# Altium schematic symbol library jlcpcb_2025_04_inductors_extended_1008.schlib: 378 symbols (part 6 of 7)
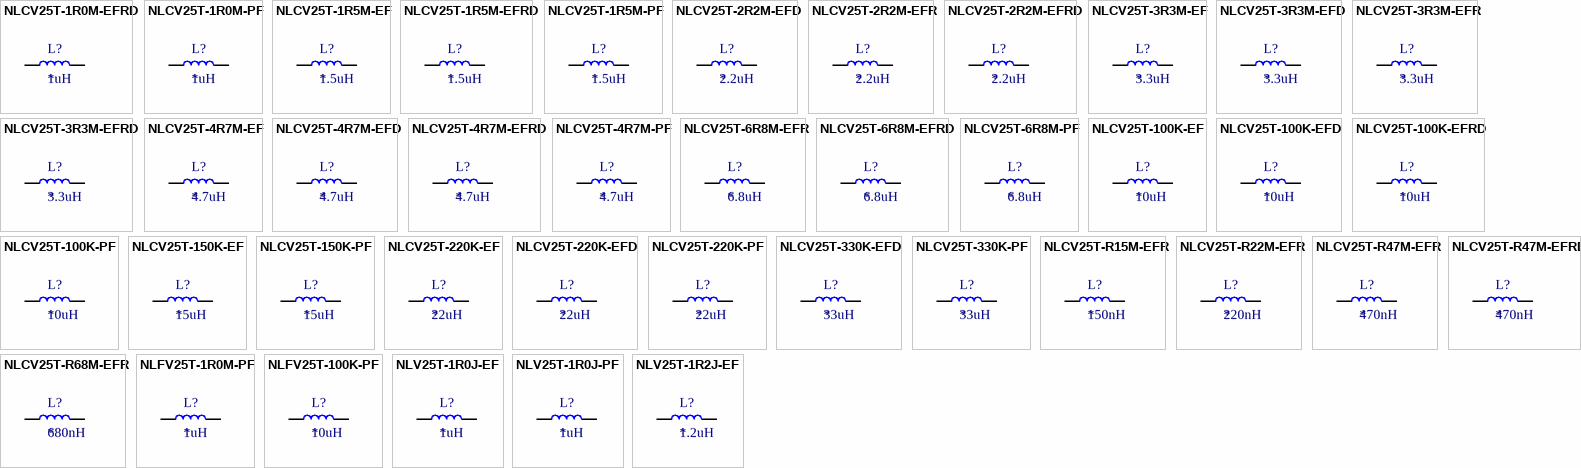
[diagram p14: symbols NLCV25T-1R0M-EFRD to NLV25T-1R2J-EF]

## NLCV25T-R22M-EFR
designator L?  Inductance: 220nH
Inductor, 220nH, ±20%, 50mΩ, 1.69A, SMD 1008; Manufacturer: TDK; Manufacturer Part Number: NLCV25T-R22M-EFR; Self-Resonant Frequency: 400MHz; Q Factor: 5@25.2MHz; Package Size: 1008; JLCPCB Basic Part: No; JLCPCB Part Number: C295200; Supplier 1: LCSC; Category: Inductors; Supplier Part Number 1: C295200; Tolerance: ±20%; Rated Current: 1.69A; DC Resistance: 50mΩ; RoHS: Yes; ComponentLink1Description: Datasheet; ComponentLink1URL: https://wmsc.lcsc.com/wmsc/upload/file/pdf/v2/lcsc/2304140030_TDK-NLCV25T-R22M-EFR_C295200.pdf; ComponentLink2Description: JLCPCB Part URL; ComponentLink2URL: https://jlcpcb.com/partdetail/C295200; ComponentLink3Description: LCSC Part URL; ComponentLink3URL: https://lcsc.com/product-detail/Inductors-SMD_TDK-TDK-NLCV25T-R22M-EFR_C295200.html
footprint IND-1008 (1008 (2520M) Inductor)
pins: 1, 2

## NLCV25T-R47M-EFR
designator L?  Inductance: 470nH
Inductor, 470nH, ±20%, 80mΩ, 1.34A, SMD 1008; Manufacturer: TDK; Manufacturer Part Number: NLCV25T-R47M-EFR; Q Factor: 5@25.2MHz; Package Size: 1008; JLCPCB Basic Part: No; JLCPCB Part Number: C295224; Supplier 1: LCSC; Category: Inductors; Supplier Part Number 1: C295224; Tolerance: ±20%; Rated Current: 1.34A; DC Resistance: 80mΩ; RoHS: Yes; ComponentLink1Description: Datasheet; ComponentLink1URL: https://wmsc.lcsc.com/wmsc/upload/file/pdf/v2/lcsc/2304140030_TDK-NLCV25T-R47M-EFR_C295224.pdf; ComponentLink2Description: JLCPCB Part URL; ComponentLink2URL: https://jlcpcb.com/partdetail/C295224; ComponentLink3Description: LCSC Part URL; ComponentLink3URL: https://lcsc.com/product-detail/Inductors-SMD_TDK-TDK-NLCV25T-R47M-EFR_C295224.html
footprint IND-1008 (1008 (2520M) Inductor)
pins: 1, 2

## NLCV25T-R47M-EFRD
designator L?  Inductance: 470nH
Inductor, 470nH, ±20%, 80mΩ, 1.34A, SMD 1008; Manufacturer: TDK; Manufacturer Part Number: NLCV25T-R47M-EFRD; Q Factor: 5@25.2MHz; Package Size: 1008; JLCPCB Basic Part: No; JLCPCB Part Number: C295399; Supplier 1: LCSC; Category: Inductors; Supplier Part Number 1: C295399; Tolerance: ±20%; Rated Current: 1.34A; DC Resistance: 80mΩ; RoHS: Yes; ComponentLink1Description: Datasheet; ComponentLink1URL: https://wmsc.lcsc.com/wmsc/upload/file/pdf/v2/lcsc/2304140030_TDK-NLCV25T-R47M-EFRD_C295399.pdf; ComponentLink2Description: JLCPCB Part URL; ComponentLink2URL: https://jlcpcb.com/partdetail/C295399; ComponentLink3Description: LCSC Part URL; ComponentLink3URL: https://lcsc.com/product-detail/Inductors-SMD_TDK-TDK-NLCV25T-R47M-EFRD_C295399.html
footprint IND-1008 (1008 (2520M) Inductor)
pins: 1, 2

## NLCV25T-R68M-EFR
designator L?  Inductance: 680nH
Inductor, 680nH, ±20%, 90mΩ, 1.26A, SMD 1008; Manufacturer: TDK; Manufacturer Part Number: NLCV25T-R68M-EFR; Q Factor: 5@25.2MHz; Package Size: 1008; JLCPCB Basic Part: No; JLCPCB Part Number: C295226; Supplier 1: LCSC; Category: Inductors; Supplier Part Number 1: C295226; Tolerance: ±20%; Rated Current: 1.26A; DC Resistance: 90mΩ; RoHS: Yes; ComponentLink1Description: Datasheet; ComponentLink1URL: https://wmsc.lcsc.com/wmsc/upload/file/pdf/v2/lcsc/2304140030_TDK-NLCV25T-R68M-EFR_C295226.pdf; ComponentLink2Description: JLCPCB Part URL; ComponentLink2URL: https://jlcpcb.com/partdetail/C295226; ComponentLink3Description: LCSC Part URL; ComponentLink3URL: https://lcsc.com/product-detail/Inductors-SMD_TDK-TDK-NLCV25T-R68M-EFR_C295226.html
footprint IND-1008 (1008 (2520M) Inductor)
pins: 1, 2

## NLFV25T-1R0M-PF
designator L?  Inductance: 1uH
Inductor, 1uH, ±20%, 70mΩ, 455mA, SMD 1008; Manufacturer: TDK; Manufacturer Part Number: NLFV25T-1R0M-PF; Self-Resonant Frequency: 100MHz; Q Factor: 5@7.96MHz; Package Size: 1008; JLCPCB Basic Part: No; JLCPCB Part Number: C107343; Supplier 1: LCSC; Category: Inductors; Supplier Part Number 1: C107343; Tolerance: ±20%; Rated Current: 455mA; DC Resistance: 70mΩ; RoHS: Yes; ComponentLink1Description: Datasheet; ComponentLink1URL: https://wmsc.lcsc.com/wmsc/upload/file/pdf/v2/lcsc/1810241907_TDK-NLFV25T-1R0M-PF_C107343.pdf; ComponentLink2Description: JLCPCB Part URL; ComponentLink2URL: https://jlcpcb.com/partdetail/C107343; ComponentLink3Description: LCSC Part URL; ComponentLink3URL: https://lcsc.com/product-detail/Inductors-SMD_TDK-TDK-NLFV25T-1R0M-PF_C107343.html
footprint IND-1008 (1008 (2520M) Inductor)
pins: 1, 2

## NLFV25T-100K-PF
designator L?  Inductance: 10uH
Inductor, 10uH, ±10%, 360mΩ, 155mA, SMD 1008; Manufacturer: TDK; Manufacturer Part Number: NLFV25T-100K-PF; Q Factor: 10@2.52MHz; Package Size: 1008; JLCPCB Basic Part: No; JLCPCB Part Number: C107342; Supplier 1: LCSC; Category: Inductors; Supplier Part Number 1: C107342; Tolerance: ±10%; Rated Current: 155mA; DC Resistance: 360mΩ; RoHS: Yes; ComponentLink1Description: Datasheet; ComponentLink1URL: https://wmsc.lcsc.com/wmsc/upload/file/pdf/v2/lcsc/2304140030_TDK-NLFV25T-100K-PF_C107342.pdf; ComponentLink2Description: JLCPCB Part URL; ComponentLink2URL: https://jlcpcb.com/partdetail/C107342; ComponentLink3Description: LCSC Part URL; ComponentLink3URL: https://lcsc.com/product-detail/Inductors-SMD_TDK-TDK-NLFV25T-100K-PF_C107342.html
footprint IND-1008 (1008 (2520M) Inductor)
pins: 1, 2

## NLV25T-1R0J-EF
designator L?  Inductance: 1uH
Inductor, 1uH, ±5%, 1.1Ω, 245mA, SMD 1008; Manufacturer: TDK; Manufacturer Part Number: NLV25T-1R0J-EF; Self-Resonant Frequency: 245MHz; Q Factor: 30@7.96MHz; Package Size: 1008; JLCPCB Basic Part: No; JLCPCB Part Number: C286741; Supplier 1: LCSC; Category: Inductors; Supplier Part Number 1: C286741; Tolerance: ±5%; Rated Current: 245mA; DC Resistance: 1.1Ω; RoHS: Yes; ComponentLink1Description: Datasheet; ComponentLink1URL: https://wmsc.lcsc.com/wmsc/upload/file/pdf/v2/lcsc/2304140030_TDK-NLV25T-1R0J-EF_C286741.pdf; ComponentLink2Description: JLCPCB Part URL; ComponentLink2URL: https://jlcpcb.com/partdetail/C286741; ComponentLink3Description: LCSC Part URL; ComponentLink3URL: https://lcsc.com/product-detail/Inductors-SMD_TDK-TDK-NLV25T-1R0J-EF_C286741.html
footprint IND-1008 (1008 (2520M) Inductor)
pins: 1, 2

## NLV25T-1R0J-PF
designator L?  Inductance: 1uH
Inductor, 1uH, ±5%, 1.1Ω, 245mA, SMD 1008; Manufacturer: TDK; Manufacturer Part Number: NLV25T-1R0J-PF; Self-Resonant Frequency: 245MHz; Q Factor: 30@7.96MHz; Package Size: 1008; JLCPCB Basic Part: No; JLCPCB Part Number: C76827; Supplier 1: LCSC; Category: Inductors; Supplier Part Number 1: C76827; Tolerance: ±5%; Rated Current: 245mA; DC Resistance: 1.1Ω; RoHS: Yes; ComponentLink1Description: Datasheet; ComponentLink1URL: https://wmsc.lcsc.com/wmsc/upload/file/pdf/v2/lcsc/2304140030_TDK-NLV25T-1R0J-PF_C76827.pdf; ComponentLink2Description: JLCPCB Part URL; ComponentLink2URL: https://jlcpcb.com/partdetail/C76827; ComponentLink3Description: LCSC Part URL; ComponentLink3URL: https://lcsc.com/product-detail/Inductors-SMD_TDK-TDK-NLV25T-1R0J-PF_C76827.html
footprint IND-1008 (1008 (2520M) Inductor)
pins: 1, 2

## NLV25T-1R2J-EF
designator L?  Inductance: 1.2uH
Inductor, 1.2uH, ±5%, 1.2Ω, 230mA, SMD 1008; Manufacturer: TDK; Manufacturer Part Number: NLV25T-1R2J-EF; Self-Resonant Frequency: 230MHz; Q Factor: 30@7.96MHz; Package Size: 1008; JLCPCB Basic Part: No; JLCPCB Part Number: C295180; Supplier 1: LCSC; Category: Inductors; Supplier Part Number 1: C295180; Tolerance: ±5%; Rated Current: 230mA; DC Resistance: 1.2Ω; RoHS: Yes; ComponentLink1Description: Datasheet; ComponentLink1URL: https://wmsc.lcsc.com/wmsc/upload/file/pdf/v2/lcsc/2304140030_TDK-NLV25T-1R2J-EF_C295180.pdf; ComponentLink2Description: JLCPCB Part URL; ComponentLink2URL: https://jlcpcb.com/partdetail/C295180; ComponentLink3Description: LCSC Part URL; ComponentLink3URL: https://lcsc.com/product-detail/Inductors-SMD_TDK-TDK-NLV25T-1R2J-EF_C295180.html
footprint IND-1008 (1008 (2520M) Inductor)
pins: 1, 2

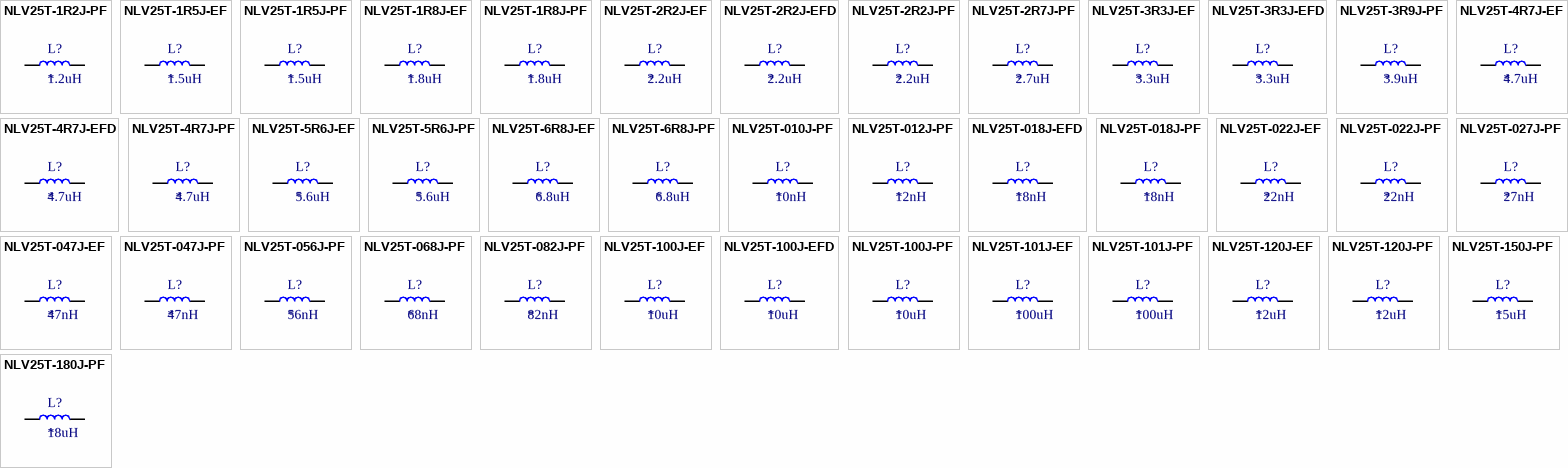
[diagram p7: symbols NLV25T-1R2J-PF to NLV25T-180J-PF]

## NLV25T-1R2J-PF
designator L?  Inductance: 1.2uH
Inductor, 1.2uH, ±5%, 1.2Ω, 230mA, SMD 1008; Manufacturer: TDK; Manufacturer Part Number: NLV25T-1R2J-PF; Self-Resonant Frequency: 230MHz; Q Factor: 30@7.96MHz; Package Size: 1008; JLCPCB Basic Part: No; JLCPCB Part Number: C88538; Supplier 1: LCSC; Category: Inductors; Supplier Part Number 1: C88538; Tolerance: ±5%; Rated Current: 230mA; DC Resistance: 1.2Ω; RoHS: Yes; ComponentLink1Description: Datasheet; ComponentLink1URL: https://wmsc.lcsc.com/wmsc/upload/file/pdf/v2/lcsc/1810241907_TDK-NLV25T-1R2J-PF_C88538.pdf; ComponentLink2Description: JLCPCB Part URL; ComponentLink2URL: https://jlcpcb.com/partdetail/C88538; ComponentLink3Description: LCSC Part URL; ComponentLink3URL: https://lcsc.com/product-detail/Inductors-SMD_TDK-TDK-NLV25T-1R2J-PF_C88538.html
footprint IND-1008 (1008 (2520M) Inductor)
pins: 1, 2

## NLV25T-1R5J-EF
designator L?  Inductance: 1.5uH
Inductor, 1.5uH, ±5%, 1.3Ω, 220mA, SMD 1008; Manufacturer: TDK; Manufacturer Part Number: NLV25T-1R5J-EF; Self-Resonant Frequency: 182MHz; Q Factor: 30@7.96MHz; Package Size: 1008; JLCPCB Basic Part: No; JLCPCB Part Number: C286742; Supplier 1: LCSC; Category: Inductors; Supplier Part Number 1: C286742; Tolerance: ±5%; Rated Current: 220mA; DC Resistance: 1.3Ω; RoHS: Yes; ComponentLink1Description: Datasheet; ComponentLink1URL: https://wmsc.lcsc.com/wmsc/upload/file/pdf/v2/lcsc/2304140030_TDK-NLV25T-1R5J-EF_C286742.pdf; ComponentLink2Description: JLCPCB Part URL; ComponentLink2URL: https://jlcpcb.com/partdetail/C286742; ComponentLink3Description: LCSC Part URL; ComponentLink3URL: https://lcsc.com/product-detail/Inductors-SMD_TDK-TDK-NLV25T-1R5J-EF_C286742.html
footprint IND-1008 (1008 (2520M) Inductor)
pins: 1, 2

## NLV25T-1R5J-PF
designator L?  Inductance: 1.5uH
Inductor, 1.5uH, ±5%, 1.3Ω, 220mA, SMD 1008; Manufacturer: TDK; Manufacturer Part Number: NLV25T-1R5J-PF; Self-Resonant Frequency: 182MHz; Q Factor: 30@7.96MHz; Package Size: 1008; JLCPCB Basic Part: No; JLCPCB Part Number: C76828; Supplier 1: LCSC; Category: Inductors; Supplier Part Number 1: C76828; Tolerance: ±5%; Rated Current: 220mA; DC Resistance: 1.3Ω; RoHS: Yes; ComponentLink1Description: Datasheet; ComponentLink1URL: https://wmsc.lcsc.com/wmsc/upload/file/pdf/v2/lcsc/2304140030_TDK-NLV25T-1R5J-PF_C76828.pdf; ComponentLink2Description: JLCPCB Part URL; ComponentLink2URL: https://jlcpcb.com/partdetail/C76828; ComponentLink3Description: LCSC Part URL; ComponentLink3URL: https://lcsc.com/product-detail/Inductors-SMD_TDK-TDK-NLV25T-1R5J-PF_C76828.html
footprint IND-1008 (1008 (2520M) Inductor)
pins: 1, 2

## NLV25T-1R8J-EF
designator L?  Inductance: 1.8uH
Inductor, 1.8uH, ±5%, 1.4Ω, 210mA, SMD 1008; Manufacturer: TDK; Manufacturer Part Number: NLV25T-1R8J-EF; Self-Resonant Frequency: 135MHz; Q Factor: 30@7.96MHz; Package Size: 1008; JLCPCB Basic Part: No; JLCPCB Part Number: C295178; Supplier 1: LCSC; Category: Inductors; Supplier Part Number 1: C295178; Tolerance: ±5%; Rated Current: 210mA; DC Resistance: 1.4Ω; RoHS: Yes; ComponentLink1Description: Datasheet; ComponentLink1URL: https://wmsc.lcsc.com/wmsc/upload/file/pdf/v2/lcsc/2304140030_TDK-NLV25T-1R8J-EF_C295178.pdf; ComponentLink2Description: JLCPCB Part URL; ComponentLink2URL: https://jlcpcb.com/partdetail/C295178; ComponentLink3Description: LCSC Part URL; ComponentLink3URL: https://lcsc.com/product-detail/Inductors-SMD_TDK-TDK-NLV25T-1R8J-EF_C295178.html
footprint IND-1008 (1008 (2520M) Inductor)
pins: 1, 2

## NLV25T-1R8J-PF
designator L?  Inductance: 1.8uH
Inductor, 1.8uH, ±5%, 1.45Ω, 210mA, SMD 1008; Manufacturer: TDK; Manufacturer Part Number: NLV25T-1R8J-PF; Self-Resonant Frequency: 135MHz; Q Factor: 30@7.96MHz; Package Size: 1008; JLCPCB Basic Part: No; JLCPCB Part Number: C88539; Supplier 1: LCSC; Category: Inductors; Supplier Part Number 1: C88539; Tolerance: ±5%; Rated Current: 210mA; DC Resistance: 1.45Ω; RoHS: Yes; ComponentLink1Description: Datasheet; ComponentLink1URL: https://wmsc.lcsc.com/wmsc/upload/file/pdf/v2/lcsc/1810241907_TDK-NLV25T-1R8J-PF_C88539.pdf; ComponentLink2Description: JLCPCB Part URL; ComponentLink2URL: https://jlcpcb.com/partdetail/C88539; ComponentLink3Description: LCSC Part URL; ComponentLink3URL: https://lcsc.com/product-detail/Inductors-SMD_TDK-TDK-NLV25T-1R8J-PF_C88539.html
footprint IND-1008 (1008 (2520M) Inductor)
pins: 1, 2

## NLV25T-2R2J-EF
designator L?  Inductance: 2.2uH
Inductor, 2.2uH, ±5%, 1.55Ω, 200mA, SMD 1008; Manufacturer: TDK; Manufacturer Part Number: NLV25T-2R2J-EF; Self-Resonant Frequency: 105MHz; Q Factor: 30@7.96MHz; Package Size: 1008; JLCPCB Basic Part: No; JLCPCB Part Number: C286744; Supplier 1: LCSC; Category: Inductors; Supplier Part Number 1: C286744; Tolerance: ±5%; Rated Current: 200mA; DC Resistance: 1.55Ω; RoHS: Yes; ComponentLink1Description: Datasheet; ComponentLink1URL: https://wmsc.lcsc.com/wmsc/upload/file/pdf/v2/lcsc/2304140030_TDK-NLV25T-2R2J-EF_C286744.pdf; ComponentLink2Description: JLCPCB Part URL; ComponentLink2URL: https://jlcpcb.com/partdetail/C286744; ComponentLink3Description: LCSC Part URL; ComponentLink3URL: https://lcsc.com/product-detail/Inductors-SMD_TDK-TDK-NLV25T-2R2J-EF_C286744.html
footprint IND-1008 (1008 (2520M) Inductor)
pins: 1, 2

## NLV25T-2R2J-EFD
designator L?  Inductance: 2.2uH
Inductor, 2.2uH, ±5%, 1.55Ω, 200mA, SMD 1008; Manufacturer: TDK; Manufacturer Part Number: NLV25T-2R2J-EFD; Self-Resonant Frequency: 105MHz; Q Factor: 30@7.96MHz; Package Size: 1008; JLCPCB Basic Part: No; JLCPCB Part Number: C295319; Supplier 1: LCSC; Category: Inductors; Supplier Part Number 1: C295319; Tolerance: ±5%; Rated Current: 200mA; DC Resistance: 1.55Ω; RoHS: Yes; ComponentLink1Description: Datasheet; ComponentLink1URL: https://wmsc.lcsc.com/wmsc/upload/file/pdf/v2/lcsc/2304140030_TDK-NLV25T-2R2J-EFD_C295319.pdf; ComponentLink2Description: JLCPCB Part URL; ComponentLink2URL: https://jlcpcb.com/partdetail/C295319; ComponentLink3Description: LCSC Part URL; ComponentLink3URL: https://lcsc.com/product-detail/Inductors-SMD_TDK-TDK-NLV25T-2R2J-EFD_C295319.html
footprint IND-1008 (1008 (2520M) Inductor)
pins: 1, 2

## NLV25T-2R2J-PF
designator L?  Inductance: 2.2uH
Inductor, 2.2uH, ±5%, 1.55Ω, 200mA, SMD 1008; Manufacturer: TDK; Manufacturer Part Number: NLV25T-2R2J-PF; Self-Resonant Frequency: 105MHz; Q Factor: 30@7.96MHz; Package Size: 1008; JLCPCB Basic Part: No; JLCPCB Part Number: C76829; Supplier 1: LCSC; Category: Inductors; Supplier Part Number 1: C76829; Tolerance: ±5%; Rated Current: 200mA; DC Resistance: 1.55Ω; RoHS: Yes; ComponentLink1Description: Datasheet; ComponentLink1URL: https://wmsc.lcsc.com/wmsc/upload/file/pdf/v2/lcsc/2304140030_TDK-NLV25T-2R2J-PF_C76829.pdf; ComponentLink2Description: JLCPCB Part URL; ComponentLink2URL: https://jlcpcb.com/partdetail/C76829; ComponentLink3Description: LCSC Part URL; ComponentLink3URL: https://lcsc.com/product-detail/Inductors-SMD_TDK-TDK-NLV25T-2R2J-PF_C76829.html
footprint IND-1008 (1008 (2520M) Inductor)
pins: 1, 2

## NLV25T-2R7J-PF
designator L?  Inductance: 2.7uH
Inductor, 2.7uH, ±5%, 1.7Ω, 195mA, SMD 1008; Manufacturer: TDK; Manufacturer Part Number: NLV25T-2R7J-PF; Self-Resonant Frequency: 70MHz; Q Factor: 30@7.96MHz; Package Size: 1008; JLCPCB Basic Part: No; JLCPCB Part Number: C76830; Supplier 1: LCSC; Category: Inductors; Supplier Part Number 1: C76830; Tolerance: ±5%; Rated Current: 195mA; DC Resistance: 1.7Ω; RoHS: Yes; ComponentLink1Description: Datasheet; ComponentLink1URL: https://wmsc.lcsc.com/wmsc/upload/file/pdf/v2/lcsc/2304140030_TDK-NLV25T-2R7J-PF_C76830.pdf; ComponentLink2Description: JLCPCB Part URL; ComponentLink2URL: https://jlcpcb.com/partdetail/C76830; ComponentLink3Description: LCSC Part URL; ComponentLink3URL: https://lcsc.com/product-detail/Inductors-SMD_TDK-TDK-NLV25T-2R7J-PF_C76830.html
footprint IND-1008 (1008 (2520M) Inductor)
pins: 1, 2

## NLV25T-3R3J-EF
designator L?  Inductance: 3.3uH
Inductor, 3.3uH, ±5%, 1.9Ω, 185mA, SMD 1008; Manufacturer: TDK; Manufacturer Part Number: NLV25T-3R3J-EF; Self-Resonant Frequency: 55MHz; Q Factor: 30@7.96MHz; Package Size: 1008; JLCPCB Basic Part: No; JLCPCB Part Number: C286747; Supplier 1: LCSC; Category: Inductors; Supplier Part Number 1: C286747; Tolerance: ±5%; Rated Current: 185mA; DC Resistance: 1.9Ω; RoHS: Yes; ComponentLink1Description: Datasheet; ComponentLink1URL: https://wmsc.lcsc.com/wmsc/upload/file/pdf/v2/lcsc/2304140030_TDK-NLV25T-3R3J-EF_C286747.pdf; ComponentLink2Description: JLCPCB Part URL; ComponentLink2URL: https://jlcpcb.com/partdetail/C286747; ComponentLink3Description: LCSC Part URL; ComponentLink3URL: https://lcsc.com/product-detail/Inductors-SMD_TDK-TDK-NLV25T-3R3J-EF_C286747.html
footprint IND-1008 (1008 (2520M) Inductor)
pins: 1, 2

## NLV25T-3R3J-EFD
designator L?  Inductance: 3.3uH
Inductor, 3.3uH, ±5%, 1.9Ω, 185mA, SMD 1008; Manufacturer: TDK; Manufacturer Part Number: NLV25T-3R3J-EFD; Self-Resonant Frequency: 55MHz; Q Factor: 30@7.96MHz; Package Size: 1008; JLCPCB Basic Part: No; JLCPCB Part Number: C295353; Supplier 1: LCSC; Category: Inductors; Supplier Part Number 1: C295353; Tolerance: ±5%; Rated Current: 185mA; DC Resistance: 1.9Ω; RoHS: Yes; ComponentLink1Description: Datasheet; ComponentLink1URL: https://wmsc.lcsc.com/wmsc/upload/file/pdf/v2/lcsc/2304140030_TDK-NLV25T-3R3J-EFD_C295353.pdf; ComponentLink2Description: JLCPCB Part URL; ComponentLink2URL: https://jlcpcb.com/partdetail/C295353; ComponentLink3Description: LCSC Part URL; ComponentLink3URL: https://lcsc.com/product-detail/Inductors-SMD_TDK-TDK-NLV25T-3R3J-EFD_C295353.html
footprint IND-1008 (1008 (2520M) Inductor)
pins: 1, 2

## NLV25T-3R9J-PF
designator L?  Inductance: 3.9uH
Inductor, 3.9uH, ±5%, 2.1Ω, 180mA, SMD 1008; Manufacturer: TDK; Manufacturer Part Number: NLV25T-3R9J-PF; Self-Resonant Frequency: 48MHz; Q Factor: 30@7.96MHz; Package Size: 1008; JLCPCB Basic Part: No; JLCPCB Part Number: C250157; Supplier 1: LCSC; Category: Inductors; Supplier Part Number 1: C250157; Tolerance: ±5%; Rated Current: 180mA; DC Resistance: 2.1Ω; RoHS: Yes; ComponentLink1Description: Datasheet; ComponentLink1URL: https://wmsc.lcsc.com/wmsc/upload/file/pdf/v2/lcsc/2304140030_TDK-NLV25T-3R9J-PF_C250157.pdf; ComponentLink2Description: JLCPCB Part URL; ComponentLink2URL: https://jlcpcb.com/partdetail/C250157; ComponentLink3Description: LCSC Part URL; ComponentLink3URL: https://lcsc.com/product-detail/Inductors-SMD_TDK-TDK-NLV25T-3R9J-PF_C250157.html
footprint IND-1008 (1008 (2520M) Inductor)
pins: 1, 2

## NLV25T-4R7J-EF
designator L?  Inductance: 4.7uH
Inductor, 4.7uH, ±5%, 2.3Ω, 175mA, SMD 1008; Manufacturer: TDK; Manufacturer Part Number: NLV25T-4R7J-EF; Self-Resonant Frequency: 43MHz; Q Factor: 30@7.96MHz; Package Size: 1008; JLCPCB Basic Part: No; JLCPCB Part Number: C286749; Supplier 1: LCSC; Category: Inductors; Supplier Part Number 1: C286749; Tolerance: ±5%; Rated Current: 175mA; DC Resistance: 2.3Ω; RoHS: Yes; ComponentLink1Description: Datasheet; ComponentLink1URL: https://wmsc.lcsc.com/wmsc/upload/file/pdf/v2/lcsc/2304140030_TDK-NLV25T-4R7J-EF_C286749.pdf; ComponentLink2Description: JLCPCB Part URL; ComponentLink2URL: https://jlcpcb.com/partdetail/C286749; ComponentLink3Description: LCSC Part URL; ComponentLink3URL: https://lcsc.com/product-detail/Inductors-SMD_TDK-TDK-NLV25T-4R7J-EF_C286749.html
footprint IND-1008 (1008 (2520M) Inductor)
pins: 1, 2

## NLV25T-4R7J-EFD
designator L?  Inductance: 4.7uH
Inductor, 4.7uH, ±5%, 2.3Ω, 175mA, SMD 1008; Manufacturer: TDK; Manufacturer Part Number: NLV25T-4R7J-EFD; Self-Resonant Frequency: 43MHz; Q Factor: 30@7.96MHz; Package Size: 1008; JLCPCB Basic Part: No; JLCPCB Part Number: C295202; Supplier 1: LCSC; Category: Inductors; Supplier Part Number 1: C295202; Tolerance: ±5%; Rated Current: 175mA; DC Resistance: 2.3Ω; RoHS: Yes; ComponentLink1Description: Datasheet; ComponentLink1URL: https://wmsc.lcsc.com/wmsc/upload/file/pdf/v2/lcsc/2304140030_TDK-NLV25T-4R7J-EFD_C295202.pdf; ComponentLink2Description: JLCPCB Part URL; ComponentLink2URL: https://jlcpcb.com/partdetail/C295202; ComponentLink3Description: LCSC Part URL; ComponentLink3URL: https://lcsc.com/product-detail/Inductors-SMD_TDK-TDK-NLV25T-4R7J-EFD_C295202.html
footprint IND-1008 (1008 (2520M) Inductor)
pins: 1, 2

## NLV25T-4R7J-PF
designator L?  Inductance: 4.7uH
Inductor, 4.7uH, ±5%, 2.3Ω, 175mA, SMD 1008; Manufacturer: TDK; Manufacturer Part Number: NLV25T-4R7J-PF; Self-Resonant Frequency: 43MHz; Q Factor: 30@7.96MHz; Package Size: 1008; JLCPCB Basic Part: No; JLCPCB Part Number: C76832; Supplier 1: LCSC; Category: Inductors; Supplier Part Number 1: C76832; Tolerance: ±5%; Rated Current: 175mA; DC Resistance: 2.3Ω; RoHS: Yes; ComponentLink1Description: Datasheet; ComponentLink1URL: https://wmsc.lcsc.com/wmsc/upload/file/pdf/v2/lcsc/2304140030_TDK-NLV25T-4R7J-PF_C76832.pdf; ComponentLink2Description: JLCPCB Part URL; ComponentLink2URL: https://jlcpcb.com/partdetail/C76832; ComponentLink3Description: LCSC Part URL; ComponentLink3URL: https://lcsc.com/product-detail/Inductors-SMD_TDK-TDK-NLV25T-4R7J-PF_C76832.html
footprint IND-1008 (1008 (2520M) Inductor)
pins: 1, 2

## NLV25T-5R6J-EF
designator L?  Inductance: 5.6uH
Inductor, 5.6uH, ±5%, 2.5Ω, 170mA, SMD 1008; Manufacturer: TDK; Manufacturer Part Number: NLV25T-5R6J-EF; Self-Resonant Frequency: 42MHz; Q Factor: 25@7.96MHz; Package Size: 1008; JLCPCB Basic Part: No; JLCPCB Part Number: C295107; Supplier 1: LCSC; Category: Inductors; Supplier Part Number 1: C295107; Tolerance: ±5%; Rated Current: 170mA; DC Resistance: 2.5Ω; RoHS: Yes; ComponentLink1Description: Datasheet; ComponentLink1URL: https://wmsc.lcsc.com/wmsc/upload/file/pdf/v2/lcsc/2304140030_TDK-NLV25T-5R6J-EF_C295107.pdf; ComponentLink2Description: JLCPCB Part URL; ComponentLink2URL: https://jlcpcb.com/partdetail/C295107; ComponentLink3Description: LCSC Part URL; ComponentLink3URL: https://lcsc.com/product-detail/Inductors-SMD_TDK-TDK-NLV25T-5R6J-EF_C295107.html
footprint IND-1008 (1008 (2520M) Inductor)
pins: 1, 2

## NLV25T-5R6J-PF
designator L?  Inductance: 5.6uH
Inductor, 5.6uH, ±5%, 2.5Ω, 170mA, SMD 1008; Manufacturer: TDK; Manufacturer Part Number: NLV25T-5R6J-PF; Self-Resonant Frequency: 42MHz; Q Factor: 25@7.96MHz; Package Size: 1008; JLCPCB Basic Part: No; JLCPCB Part Number: C88521; Supplier 1: LCSC; Category: Inductors; Supplier Part Number 1: C88521; Tolerance: ±5%; Rated Current: 170mA; DC Resistance: 2.5Ω; RoHS: Yes; ComponentLink1Description: Datasheet; ComponentLink1URL: https://wmsc.lcsc.com/wmsc/upload/file/pdf/v2/lcsc/1810241907_TDK-NLV25T-5R6J-PF_C88521.pdf; ComponentLink2Description: JLCPCB Part URL; ComponentLink2URL: https://jlcpcb.com/partdetail/C88521; ComponentLink3Description: LCSC Part URL; ComponentLink3URL: https://lcsc.com/product-detail/Inductors-SMD_TDK-TDK-NLV25T-5R6J-PF_C88521.html
footprint IND-1008 (1008 (2520M) Inductor)
pins: 1, 2

## NLV25T-6R8J-EF
designator L?  Inductance: 6.8uH
Inductor, 6.8uH, ±5%, 2.7Ω, 165mA, SMD 1008; Manufacturer: TDK; Manufacturer Part Number: NLV25T-6R8J-EF; Self-Resonant Frequency: 39MHz; Q Factor: 25@7.96MHz; Package Size: 1008; JLCPCB Basic Part: No; JLCPCB Part Number: C295131; Supplier 1: LCSC; Category: Inductors; Supplier Part Number 1: C295131; Tolerance: ±5%; Rated Current: 165mA; DC Resistance: 2.7Ω; RoHS: Yes; ComponentLink1Description: Datasheet; ComponentLink1URL: https://wmsc.lcsc.com/wmsc/upload/file/pdf/v2/lcsc/2304140030_TDK-NLV25T-6R8J-EF_C295131.pdf; ComponentLink2Description: JLCPCB Part URL; ComponentLink2URL: https://jlcpcb.com/partdetail/C295131; ComponentLink3Description: LCSC Part URL; ComponentLink3URL: https://lcsc.com/product-detail/Inductors-SMD_TDK-TDK-NLV25T-6R8J-EF_C295131.html
footprint IND-1008 (1008 (2520M) Inductor)
pins: 1, 2

## NLV25T-6R8J-PF
designator L?  Inductance: 6.8uH
Inductor, 6.8uH, ±5%, 2.7Ω, 165mA, SMD 1008; Manufacturer: TDK; Manufacturer Part Number: NLV25T-6R8J-PF; Self-Resonant Frequency: 39MHz; Q Factor: 25@7.96MHz; Package Size: 1008; JLCPCB Basic Part: No; JLCPCB Part Number: C250158; Supplier 1: LCSC; Category: Inductors; Supplier Part Number 1: C250158; Tolerance: ±5%; Rated Current: 165mA; DC Resistance: 2.7Ω; RoHS: Yes; ComponentLink1Description: Datasheet; ComponentLink1URL: https://wmsc.lcsc.com/wmsc/upload/file/pdf/v2/lcsc/2304140030_TDK-NLV25T-6R8J-PF_C250158.pdf; ComponentLink2Description: JLCPCB Part URL; ComponentLink2URL: https://jlcpcb.com/partdetail/C250158; ComponentLink3Description: LCSC Part URL; ComponentLink3URL: https://lcsc.com/product-detail/Inductors-SMD_TDK-TDK-NLV25T-6R8J-PF_C250158.html
footprint IND-1008 (1008 (2520M) Inductor)
pins: 1, 2

## NLV25T-010J-PF
designator L?  Inductance: 10nH
Inductor, 10nH, ±5%, 260mΩ, 530mA, SMD 1008; Manufacturer: TDK; Manufacturer Part Number: NLV25T-010J-PF; Self-Resonant Frequency: 2150MHz; Q Factor: 15@100MHz; Package Size: 1008; JLCPCB Basic Part: No; JLCPCB Part Number: C250141; Supplier 1: LCSC; Category: Inductors; Supplier Part Number 1: C250141; Tolerance: ±5%; Rated Current: 530mA; DC Resistance: 260mΩ; RoHS: Yes; ComponentLink1Description: Datasheet; ComponentLink1URL: https://wmsc.lcsc.com/wmsc/upload/file/pdf/v2/lcsc/2304140030_TDK-NLV25T-010J-PF_C250141.pdf; ComponentLink2Description: JLCPCB Part URL; ComponentLink2URL: https://jlcpcb.com/partdetail/C250141; ComponentLink3Description: LCSC Part URL; ComponentLink3URL: https://lcsc.com/product-detail/Inductors-SMD_TDK-TDK-NLV25T-010J-PF_C250141.html
footprint IND-1008 (1008 (2520M) Inductor)
pins: 1, 2

## NLV25T-012J-PF
designator L?  Inductance: 12nH
Inductor, 12nH, ±5%, 270mΩ, 500mA, SMD 1008; Manufacturer: TDK; Manufacturer Part Number: NLV25T-012J-PF; Self-Resonant Frequency: 2050MHz; Q Factor: 15@100MHz; Package Size: 1008; JLCPCB Basic Part: No; JLCPCB Part Number: C250142; Supplier 1: LCSC; Category: Inductors; Supplier Part Number 1: C250142; Tolerance: ±5%; Rated Current: 500mA; DC Resistance: 270mΩ; RoHS: Yes; ComponentLink1Description: Datasheet; ComponentLink1URL: https://wmsc.lcsc.com/wmsc/upload/file/pdf/v2/lcsc/2304140030_TDK-NLV25T-012J-PF_C250142.pdf; ComponentLink2Description: JLCPCB Part URL; ComponentLink2URL: https://jlcpcb.com/partdetail/C250142; ComponentLink3Description: LCSC Part URL; ComponentLink3URL: https://lcsc.com/product-detail/Inductors-SMD_TDK-TDK-NLV25T-012J-PF_C250142.html
footprint IND-1008 (1008 (2520M) Inductor)
pins: 1, 2

## NLV25T-018J-EFD
designator L?  Inductance: 18nH
Inductor, 18nH, ±5%, 310mΩ, 450mA, SMD 1008; Manufacturer: TDK; Manufacturer Part Number: NLV25T-018J-EFD; Self-Resonant Frequency: 1850MHz; Q Factor: 15@100MHz; Package Size: 1008; JLCPCB Basic Part: No; JLCPCB Part Number: C295341; Supplier 1: LCSC; Category: Inductors; Supplier Part Number 1: C295341; Tolerance: ±5%; Rated Current: 450mA; DC Resistance: 310mΩ; RoHS: Yes; ComponentLink1Description: Datasheet; ComponentLink1URL: https://wmsc.lcsc.com/wmsc/upload/file/pdf/v2/lcsc/2304140030_TDK-NLV25T-018J-EFD_C295341.pdf; ComponentLink2Description: JLCPCB Part URL; ComponentLink2URL: https://jlcpcb.com/partdetail/C295341; ComponentLink3Description: LCSC Part URL; ComponentLink3URL: https://lcsc.com/product-detail/Inductors-SMD_TDK-TDK-NLV25T-018J-EFD_C295341.html
footprint IND-1008 (1008 (2520M) Inductor)
pins: 1, 2

## NLV25T-018J-PF
designator L?  Inductance: 18nH
Inductor, 18nH, ±5%, 310mΩ, 450mA, SMD 1008; Manufacturer: TDK; Manufacturer Part Number: NLV25T-018J-PF; Self-Resonant Frequency: 1850MHz; Q Factor: 15@100MHz; Package Size: 1008; JLCPCB Basic Part: No; JLCPCB Part Number: C250144; Supplier 1: LCSC; Category: Inductors; Supplier Part Number 1: C250144; Tolerance: ±5%; Rated Current: 450mA; DC Resistance: 310mΩ; RoHS: Yes; ComponentLink1Description: Datasheet; ComponentLink1URL: https://wmsc.lcsc.com/wmsc/upload/file/pdf/v2/lcsc/2304140030_TDK-NLV25T-018J-PF_C250144.pdf; ComponentLink2Description: JLCPCB Part URL; ComponentLink2URL: https://jlcpcb.com/partdetail/C250144; ComponentLink3Description: LCSC Part URL; ComponentLink3URL: https://lcsc.com/product-detail/Inductors-SMD_TDK-TDK-NLV25T-018J-PF_C250144.html
footprint IND-1008 (1008 (2520M) Inductor)
pins: 1, 2

## NLV25T-022J-EF
designator L?  Inductance: 22nH
Inductor, 22nH, ±5%, 370mΩ, 420mA, SMD 1008; Manufacturer: TDK; Manufacturer Part Number: NLV25T-022J-EF; Self-Resonant Frequency: 1650MHz; Q Factor: 15@100MHz; Package Size: 1008; JLCPCB Basic Part: No; JLCPCB Part Number: C295179; Supplier 1: LCSC; Category: Inductors; Supplier Part Number 1: C295179; Tolerance: ±5%; Rated Current: 420mA; DC Resistance: 370mΩ; RoHS: Yes; ComponentLink1Description: Datasheet; ComponentLink1URL: https://wmsc.lcsc.com/wmsc/upload/file/pdf/v2/lcsc/2304140030_TDK-NLV25T-022J-EF_C295179.pdf; ComponentLink2Description: JLCPCB Part URL; ComponentLink2URL: https://jlcpcb.com/partdetail/C295179; ComponentLink3Description: LCSC Part URL; ComponentLink3URL: https://lcsc.com/product-detail/Inductors-SMD_TDK-TDK-NLV25T-022J-EF_C295179.html
footprint IND-1008 (1008 (2520M) Inductor)
pins: 1, 2

## NLV25T-022J-PF
designator L?  Inductance: 22nH
Inductor, 22nH, ±5%, 370mΩ, 420mA, SMD 1008; Manufacturer: TDK; Manufacturer Part Number: NLV25T-022J-PF; Self-Resonant Frequency: 1650MHz; Q Factor: 15@100MHz; Package Size: 1008; JLCPCB Basic Part: No; JLCPCB Part Number: C250145; Supplier 1: LCSC; Category: Inductors; Supplier Part Number 1: C250145; Tolerance: ±5%; Rated Current: 420mA; DC Resistance: 370mΩ; RoHS: Yes; ComponentLink1Description: Datasheet; ComponentLink1URL: https://wmsc.lcsc.com/wmsc/upload/file/pdf/v2/lcsc/2304140030_TDK-NLV25T-022J-PF_C250145.pdf; ComponentLink2Description: JLCPCB Part URL; ComponentLink2URL: https://jlcpcb.com/partdetail/C250145; ComponentLink3Description: LCSC Part URL; ComponentLink3URL: https://lcsc.com/product-detail/Inductors-SMD_TDK-TDK-NLV25T-022J-PF_C250145.html
footprint IND-1008 (1008 (2520M) Inductor)
pins: 1, 2

## NLV25T-027J-PF
designator L?  Inductance: 27nH
Inductor, 27nH, ±5%, 400mΩ, 410mA, SMD 1008; Manufacturer: TDK; Manufacturer Part Number: NLV25T-027J-PF; Self-Resonant Frequency: 1550MHz; Q Factor: 15@100MHz; Package Size: 1008; JLCPCB Basic Part: No; JLCPCB Part Number: C250146; Supplier 1: LCSC; Category: Inductors; Supplier Part Number 1: C250146; Tolerance: ±5%; Rated Current: 410mA; DC Resistance: 400mΩ; RoHS: Yes; ComponentLink1Description: Datasheet; ComponentLink1URL: https://wmsc.lcsc.com/wmsc/upload/file/pdf/v2/lcsc/2304140030_TDK-NLV25T-027J-PF_C250146.pdf; ComponentLink2Description: JLCPCB Part URL; ComponentLink2URL: https://jlcpcb.com/partdetail/C250146; ComponentLink3Description: LCSC Part URL; ComponentLink3URL: https://lcsc.com/product-detail/Inductors-SMD_TDK-TDK-NLV25T-027J-PF_C250146.html
footprint IND-1008 (1008 (2520M) Inductor)
pins: 1, 2

## NLV25T-047J-EF
designator L?  Inductance: 47nH
Inductor, 47nH, ±5%, 500mΩ, 360mA, SMD 1008; Manufacturer: TDK; Manufacturer Part Number: NLV25T-047J-EF; Self-Resonant Frequency: 1.2GHz; Q Factor: 20@100MHz; Package Size: 1008; JLCPCB Basic Part: No; JLCPCB Part Number: C286549; Supplier 1: LCSC; Category: Inductors; Supplier Part Number 1: C286549; Tolerance: ±5%; Rated Current: 360mA; DC Resistance: 500mΩ; RoHS: Yes; ComponentLink1Description: Datasheet; ComponentLink1URL: https://wmsc.lcsc.com/wmsc/upload/file/pdf/v2/lcsc/2304140030_TDK-NLV25T-047J-EF_C286549.pdf; ComponentLink2Description: JLCPCB Part URL; ComponentLink2URL: https://jlcpcb.com/partdetail/C286549; ComponentLink3Description: LCSC Part URL; ComponentLink3URL: https://lcsc.com/product-detail/Inductors-SMD_TDK-TDK-NLV25T-047J-EF_C286549.html
footprint IND-1008 (1008 (2520M) Inductor)
pins: 1, 2

## NLV25T-047J-PF
designator L?  Inductance: 47nH
Inductor, 47nH, ±5%, 500mΩ, 360mA, SMD 1008; Manufacturer: TDK; Manufacturer Part Number: NLV25T-047J-PF; Self-Resonant Frequency: 1.2GHz; Q Factor: 20@100MHz; Package Size: 1008; JLCPCB Basic Part: No; JLCPCB Part Number: C250149; Supplier 1: LCSC; Category: Inductors; Supplier Part Number 1: C250149; Tolerance: ±5%; Rated Current: 360mA; DC Resistance: 500mΩ; RoHS: Yes; ComponentLink1Description: Datasheet; ComponentLink1URL: https://wmsc.lcsc.com/wmsc/upload/file/pdf/v2/lcsc/2304140030_TDK-NLV25T-047J-PF_C250149.pdf; ComponentLink2Description: JLCPCB Part URL; ComponentLink2URL: https://jlcpcb.com/partdetail/C250149; ComponentLink3Description: LCSC Part URL; ComponentLink3URL: https://lcsc.com/product-detail/Inductors-SMD_TDK-TDK-NLV25T-047J-PF_C250149.html
footprint IND-1008 (1008 (2520M) Inductor)
pins: 1, 2

## NLV25T-056J-PF
designator L?  Inductance: 56nH
Inductor, 56nH, ±5%, 600mΩ, 340mA, SMD 1008; Manufacturer: TDK; Manufacturer Part Number: NLV25T-056J-PF; Self-Resonant Frequency: 1.1GHz; Q Factor: 20@100MHz; Package Size: 1008; JLCPCB Basic Part: No; JLCPCB Part Number: C250150; Supplier 1: LCSC; Category: Inductors; Supplier Part Number 1: C250150; Tolerance: ±5%; Rated Current: 340mA; DC Resistance: 600mΩ; RoHS: Yes; ComponentLink1Description: Datasheet; ComponentLink1URL: https://wmsc.lcsc.com/wmsc/upload/file/pdf/v2/lcsc/2304140030_TDK-NLV25T-056J-PF_C250150.pdf; ComponentLink2Description: JLCPCB Part URL; ComponentLink2URL: https://jlcpcb.com/partdetail/C250150; ComponentLink3Description: LCSC Part URL; ComponentLink3URL: https://lcsc.com/product-detail/Inductors-SMD_TDK-TDK-NLV25T-056J-PF_C250150.html
footprint IND-1008 (1008 (2520M) Inductor)
pins: 1, 2

## NLV25T-068J-PF
designator L?  Inductance: 68nH
Inductor, 68nH, ±5%, 650mΩ, 320mA, SMD 1008; Manufacturer: TDK; Manufacturer Part Number: NLV25T-068J-PF; Self-Resonant Frequency: 1.05GHz; Q Factor: 20@100MHz; Package Size: 1008; JLCPCB Basic Part: No; JLCPCB Part Number: C250151; Supplier 1: LCSC; Category: Inductors; Supplier Part Number 1: C250151; Tolerance: ±5%; Rated Current: 320mA; DC Resistance: 650mΩ; RoHS: Yes; ComponentLink1Description: Datasheet; ComponentLink1URL: https://wmsc.lcsc.com/wmsc/upload/file/pdf/v2/lcsc/2304140030_TDK-NLV25T-068J-PF_C250151.pdf; ComponentLink2Description: JLCPCB Part URL; ComponentLink2URL: https://jlcpcb.com/partdetail/C250151; ComponentLink3Description: LCSC Part URL; ComponentLink3URL: https://lcsc.com/product-detail/Inductors-SMD_TDK-TDK-NLV25T-068J-PF_C250151.html
footprint IND-1008 (1008 (2520M) Inductor)
pins: 1, 2

## NLV25T-082J-PF
designator L?  Inductance: 82nH
Inductor, 82nH, ±5%, 750mΩ, 300mA, SMD 1008; Manufacturer: TDK; Manufacturer Part Number: NLV25T-082J-PF; Self-Resonant Frequency: 900MHz; Q Factor: 20@100MHz; Package Size: 1008; JLCPCB Basic Part: No; JLCPCB Part Number: C76824; Supplier 1: LCSC; Category: Inductors; Supplier Part Number 1: C76824; Tolerance: ±5%; Rated Current: 300mA; DC Resistance: 750mΩ; RoHS: Yes; ComponentLink1Description: Datasheet; ComponentLink1URL: https://wmsc.lcsc.com/wmsc/upload/file/pdf/v2/lcsc/2304140030_TDK-NLV25T-082J-PF_C76824.pdf; ComponentLink2Description: JLCPCB Part URL; ComponentLink2URL: https://jlcpcb.com/partdetail/C76824; ComponentLink3Description: LCSC Part URL; ComponentLink3URL: https://lcsc.com/product-detail/Inductors-SMD_TDK-TDK-NLV25T-082J-PF_C76824.html
footprint IND-1008 (1008 (2520M) Inductor)
pins: 1, 2

## NLV25T-100J-EF
designator L?  Inductance: 10uH
Inductor, 10uH, ±5%, 3.5Ω, 155mA, SMD 1008; Manufacturer: TDK; Manufacturer Part Number: NLV25T-100J-EF; Self-Resonant Frequency: 33MHz; Q Factor: 25@2.52MHz; Package Size: 1008; JLCPCB Basic Part: No; JLCPCB Part Number: C286550; Supplier 1: LCSC; Category: Inductors; Supplier Part Number 1: C286550; Tolerance: ±5%; Rated Current: 155mA; DC Resistance: 3.5Ω; RoHS: Yes; ComponentLink1Description: Datasheet; ComponentLink1URL: https://wmsc.lcsc.com/wmsc/upload/file/pdf/v2/lcsc/2304140030_TDK-NLV25T-100J-EF_C286550.pdf; ComponentLink2Description: JLCPCB Part URL; ComponentLink2URL: https://jlcpcb.com/partdetail/C286550; ComponentLink3Description: LCSC Part URL; ComponentLink3URL: https://lcsc.com/product-detail/Inductors-SMD_TDK-TDK-NLV25T-100J-EF_C286550.html
footprint IND-1008 (1008 (2520M) Inductor)
pins: 1, 2

## NLV25T-100J-EFD
designator L?  Inductance: 10uH
Inductor, 10uH, ±5%, 3.5Ω, 155mA, SMD 1008; Manufacturer: TDK; Manufacturer Part Number: NLV25T-100J-EFD; Self-Resonant Frequency: 33MHz; Q Factor: 25@2.52MHz; Package Size: 1008; JLCPCB Basic Part: No; JLCPCB Part Number: C295320; Supplier 1: LCSC; Category: Inductors; Supplier Part Number 1: C295320; Tolerance: ±5%; Rated Current: 155mA; DC Resistance: 3.5Ω; RoHS: Yes; ComponentLink1Description: Datasheet; ComponentLink1URL: https://wmsc.lcsc.com/wmsc/upload/file/pdf/v2/lcsc/2304140030_TDK-NLV25T-100J-EFD_C295320.pdf; ComponentLink2Description: JLCPCB Part URL; ComponentLink2URL: https://jlcpcb.com/partdetail/C295320; ComponentLink3Description: LCSC Part URL; ComponentLink3URL: https://lcsc.com/product-detail/Inductors-SMD_TDK-TDK-NLV25T-100J-EFD_C295320.html
footprint IND-1008 (1008 (2520M) Inductor)
pins: 1, 2

## NLV25T-100J-PF
designator L?  Inductance: 10uH
Inductor, 10uH, ±5%, 3.5Ω, 155mA, SMD 1008; Manufacturer: TDK; Manufacturer Part Number: NLV25T-100J-PF; Self-Resonant Frequency: 33MHz; Q Factor: 25@2.52MHz; Package Size: 1008; JLCPCB Basic Part: No; JLCPCB Part Number: C76825; Supplier 1: LCSC; Category: Inductors; Supplier Part Number 1: C76825; Tolerance: ±5%; Rated Current: 155mA; DC Resistance: 3.5Ω; RoHS: Yes; ComponentLink1Description: Datasheet; ComponentLink1URL: https://wmsc.lcsc.com/wmsc/upload/file/pdf/v2/lcsc/2304140030_TDK-NLV25T-100J-PF_C76825.pdf; ComponentLink2Description: JLCPCB Part URL; ComponentLink2URL: https://jlcpcb.com/partdetail/C76825; ComponentLink3Description: LCSC Part URL; ComponentLink3URL: https://lcsc.com/product-detail/Inductors-SMD_TDK-TDK-NLV25T-100J-PF_C76825.html
footprint IND-1008 (1008 (2520M) Inductor)
pins: 1, 2

## NLV25T-101J-EF
designator L?  Inductance: 100uH
Inductor, 100uH, ±5%, 21Ω, 60mA, SMD 1008; Manufacturer: TDK; Manufacturer Part Number: NLV25T-101J-EF; Self-Resonant Frequency: 12MHz; Q Factor: 15@0.796MHz; Package Size: 1008; JLCPCB Basic Part: No; JLCPCB Part Number: C286551; Supplier 1: LCSC; Category: Inductors; Supplier Part Number 1: C286551; Tolerance: ±5%; Rated Current: 60mA; DC Resistance: 21Ω; RoHS: Yes; ComponentLink1Description: Datasheet; ComponentLink1URL: https://wmsc.lcsc.com/wmsc/upload/file/pdf/v2/lcsc/2304140030_TDK-NLV25T-101J-EF_C286551.pdf; ComponentLink2Description: JLCPCB Part URL; ComponentLink2URL: https://jlcpcb.com/partdetail/C286551; ComponentLink3Description: LCSC Part URL; ComponentLink3URL: https://lcsc.com/product-detail/Inductors-SMD_TDK-TDK-NLV25T-101J-EF_C286551.html
footprint IND-1008 (1008 (2520M) Inductor)
pins: 1, 2

## NLV25T-101J-PF
designator L?  Inductance: 100uH
Inductor, 100uH, ±5%, 21Ω, 60mA, SMD 1008; Manufacturer: TDK; Manufacturer Part Number: NLV25T-101J-PF; Self-Resonant Frequency: 12MHz; Q Factor: 15@0.796MHz; Package Size: 1008; JLCPCB Basic Part: No; JLCPCB Part Number: C76826; Supplier 1: LCSC; Category: Inductors; Supplier Part Number 1: C76826; Tolerance: ±5%; Rated Current: 60mA; DC Resistance: 21Ω; RoHS: Yes; ComponentLink1Description: Datasheet; ComponentLink1URL: https://wmsc.lcsc.com/wmsc/upload/file/pdf/v2/lcsc/2304140030_TDK-NLV25T-101J-PF_C76826.pdf; ComponentLink2Description: JLCPCB Part URL; ComponentLink2URL: https://jlcpcb.com/partdetail/C76826; ComponentLink3Description: LCSC Part URL; ComponentLink3URL: https://lcsc.com/product-detail/Inductors-SMD_TDK-TDK-NLV25T-101J-PF_C76826.html
footprint IND-1008 (1008 (2520M) Inductor)
pins: 1, 2

## NLV25T-120J-EF
designator L?  Inductance: 12uH
Inductor, 12uH, ±5%, 3.8Ω, 150mA, SMD 1008; Manufacturer: TDK; Manufacturer Part Number: NLV25T-120J-EF; Self-Resonant Frequency: 30MHz; Q Factor: 25@2.52MHz; Package Size: 1008; JLCPCB Basic Part: No; JLCPCB Part Number: C295110; Supplier 1: LCSC; Category: Inductors; Supplier Part Number 1: C295110; Tolerance: ±5%; Rated Current: 150mA; DC Resistance: 3.8Ω; RoHS: Yes; ComponentLink1Description: Datasheet; ComponentLink1URL: https://wmsc.lcsc.com/wmsc/upload/file/pdf/v2/lcsc/2304140030_TDK-NLV25T-120J-EF_C295110.pdf; ComponentLink2Description: JLCPCB Part URL; ComponentLink2URL: https://jlcpcb.com/partdetail/C295110; ComponentLink3Description: LCSC Part URL; ComponentLink3URL: https://lcsc.com/product-detail/Inductors-SMD_TDK-TDK-NLV25T-120J-EF_C295110.html
footprint IND-1008 (1008 (2520M) Inductor)
pins: 1, 2

## NLV25T-120J-PF
designator L?  Inductance: 12uH
Inductor, 12uH, ±5%, 3.8Ω, 150mA, SMD 1008; Manufacturer: TDK; Manufacturer Part Number: NLV25T-120J-PF; Self-Resonant Frequency: 30MHz; Q Factor: 25@2.52MHz; Package Size: 1008; JLCPCB Basic Part: No; JLCPCB Part Number: C250159; Supplier 1: LCSC; Category: Inductors; Supplier Part Number 1: C250159; Tolerance: ±5%; Rated Current: 150mA; DC Resistance: 3.8Ω; RoHS: Yes; ComponentLink1Description: Datasheet; ComponentLink1URL: https://wmsc.lcsc.com/wmsc/upload/file/pdf/v2/lcsc/2304140030_TDK-NLV25T-120J-PF_C250159.pdf; ComponentLink2Description: JLCPCB Part URL; ComponentLink2URL: https://jlcpcb.com/partdetail/C250159; ComponentLink3Description: LCSC Part URL; ComponentLink3URL: https://lcsc.com/product-detail/Inductors-SMD_TDK-TDK-NLV25T-120J-PF_C250159.html
footprint IND-1008 (1008 (2520M) Inductor)
pins: 1, 2

## NLV25T-150J-PF
designator L?  Inductance: 15uH
Inductor, 15uH, ±5%, 4.4Ω, 140mA, SMD 1008; Manufacturer: TDK; Manufacturer Part Number: NLV25T-150J-PF; Self-Resonant Frequency: 26MHz; Q Factor: 25@2.52MHz; Package Size: 1008; JLCPCB Basic Part: No; JLCPCB Part Number: C88187; Supplier 1: LCSC; Category: Inductors; Supplier Part Number 1: C88187; Tolerance: ±5%; Rated Current: 140mA; DC Resistance: 4.4Ω; RoHS: Yes; ComponentLink1Description: Datasheet; ComponentLink1URL: https://wmsc.lcsc.com/wmsc/upload/file/pdf/v2/lcsc/1810241911_TDK-NLV25T-150J-PF_C88187.pdf; ComponentLink2Description: JLCPCB Part URL; ComponentLink2URL: https://jlcpcb.com/partdetail/C88187; ComponentLink3Description: LCSC Part URL; ComponentLink3URL: https://lcsc.com/product-detail/Inductors-SMD_TDK-TDK-NLV25T-150J-PF_C88187.html
footprint IND-1008 (1008 (2520M) Inductor)
pins: 1, 2

## NLV25T-180J-PF
designator L?  Inductance: 18uH
Inductor, 18uH, ±5%, 4.8Ω, 130mA, SMD 1008; Manufacturer: TDK; Manufacturer Part Number: NLV25T-180J-PF; Self-Resonant Frequency: 24MHz; Q Factor: 25@2.52MHz; Package Size: 1008; JLCPCB Basic Part: No; JLCPCB Part Number: C250160; Supplier 1: LCSC; Category: Inductors; Supplier Part Number 1: C250160; Tolerance: ±5%; Rated Current: 130mA; DC Resistance: 4.8Ω; RoHS: Yes; ComponentLink1Description: Datasheet; ComponentLink1URL: https://wmsc.lcsc.com/wmsc/upload/file/pdf/v2/lcsc/2304140030_TDK-NLV25T-180J-PF_C250160.pdf; ComponentLink2Description: JLCPCB Part URL; ComponentLink2URL: https://jlcpcb.com/partdetail/C250160; ComponentLink3Description: LCSC Part URL; ComponentLink3URL: https://lcsc.com/product-detail/Inductors-SMD_TDK-TDK-NLV25T-180J-PF_C250160.html
footprint IND-1008 (1008 (2520M) Inductor)
pins: 1, 2

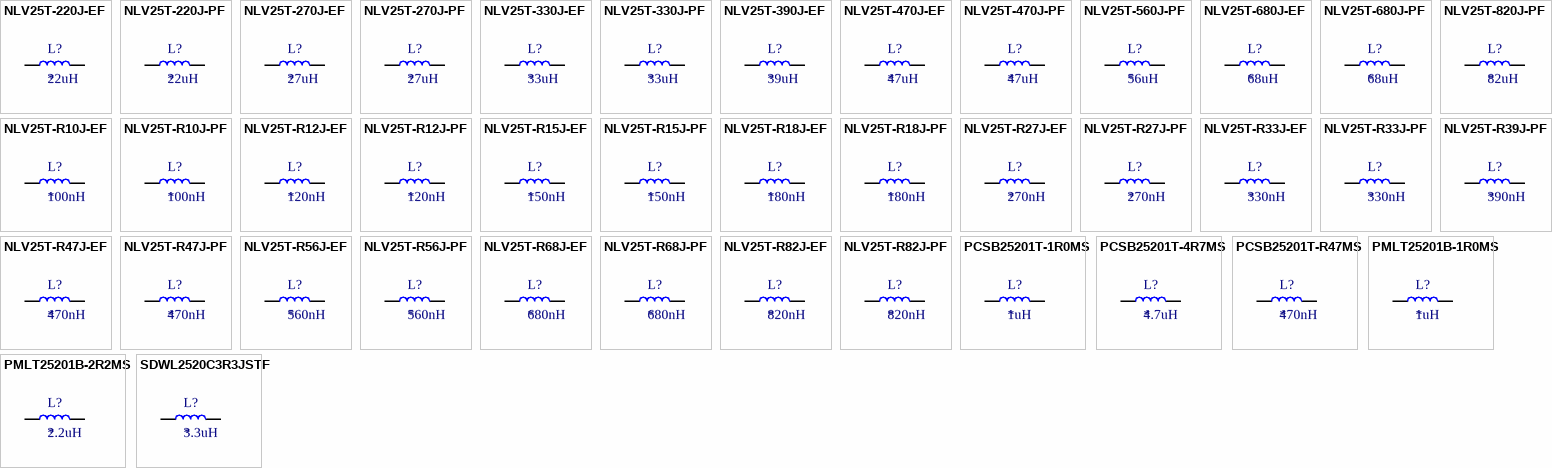
[diagram p8: symbols NLV25T-220J-EF to SDWL2520C3R3JSTF]

## NLV25T-220J-EF
designator L?  Inductance: 22uH
Inductor, 22uH, ±5%, 5.5Ω, 125mA, SMD 1008; Manufacturer: TDK; Manufacturer Part Number: NLV25T-220J-EF; Self-Resonant Frequency: 22MHz; Q Factor: 25@2.52MHz; Package Size: 1008; JLCPCB Basic Part: No; JLCPCB Part Number: C286743; Supplier 1: LCSC; Category: Inductors; Supplier Part Number 1: C286743; Tolerance: ±5%; Rated Current: 125mA; DC Resistance: 5.5Ω; RoHS: Yes; ComponentLink1Description: Datasheet; ComponentLink1URL: https://wmsc.lcsc.com/wmsc/upload/file/pdf/v2/lcsc/2304140030_TDK-NLV25T-220J-EF_C286743.pdf; ComponentLink2Description: JLCPCB Part URL; ComponentLink2URL: https://jlcpcb.com/partdetail/C286743; ComponentLink3Description: LCSC Part URL; ComponentLink3URL: https://lcsc.com/product-detail/Inductors-SMD_TDK-TDK-NLV25T-220J-EF_C286743.html
footprint IND-1008 (1008 (2520M) Inductor)
pins: 1, 2

## NLV25T-220J-PF
designator L?  Inductance: 22uH
Inductor, 22uH, ±5%, 5.5Ω, 125mA, SMD 1008; Manufacturer: TDK; Manufacturer Part Number: NLV25T-220J-PF; Self-Resonant Frequency: 22MHz; Q Factor: 25@2.52MHz; Package Size: 1008; JLCPCB Basic Part: No; JLCPCB Part Number: C88518; Supplier 1: LCSC; Category: Inductors; Supplier Part Number 1: C88518; Tolerance: ±5%; Rated Current: 125mA; DC Resistance: 5.5Ω; RoHS: Yes; ComponentLink1Description: Datasheet; ComponentLink1URL: https://wmsc.lcsc.com/wmsc/upload/file/pdf/v2/lcsc/1810241906_TDK-NLV25T-220J-PF_C88518.pdf; ComponentLink2Description: JLCPCB Part URL; ComponentLink2URL: https://jlcpcb.com/partdetail/C88518; ComponentLink3Description: LCSC Part URL; ComponentLink3URL: https://lcsc.com/product-detail/Inductors-SMD_TDK-TDK-NLV25T-220J-PF_C88518.html
footprint IND-1008 (1008 (2520M) Inductor)
pins: 1, 2

## NLV25T-270J-EF
designator L?  Inductance: 27uH
Inductor, 27uH, ±5%, 6.3Ω, 115mA, SMD 1008; Manufacturer: TDK; Manufacturer Part Number: NLV25T-270J-EF; Self-Resonant Frequency: 21MHz; Q Factor: 25@2.52MHz; Package Size: 1008; JLCPCB Basic Part: No; JLCPCB Part Number: C295174; Supplier 1: LCSC; Category: Inductors; Supplier Part Number 1: C295174; Tolerance: ±5%; Rated Current: 115mA; DC Resistance: 6.3Ω; RoHS: Yes; ComponentLink1Description: Datasheet; ComponentLink1URL: https://wmsc.lcsc.com/wmsc/upload/file/pdf/v2/lcsc/2304140030_TDK-NLV25T-270J-EF_C295174.pdf; ComponentLink2Description: JLCPCB Part URL; ComponentLink2URL: https://jlcpcb.com/partdetail/C295174; ComponentLink3Description: LCSC Part URL; ComponentLink3URL: https://lcsc.com/product-detail/Inductors-SMD_TDK-TDK-NLV25T-270J-EF_C295174.html
footprint IND-1008 (1008 (2520M) Inductor)
pins: 1, 2

## NLV25T-270J-PF
designator L?  Inductance: 27uH
Inductor, 27uH, ±5%, 6.3Ω, 115mA, SMD 1008; Manufacturer: TDK; Manufacturer Part Number: NLV25T-270J-PF; Self-Resonant Frequency: 21MHz; Q Factor: 25@2.52MHz; Package Size: 1008; JLCPCB Basic Part: No; JLCPCB Part Number: C250161; Supplier 1: LCSC; Category: Inductors; Supplier Part Number 1: C250161; Tolerance: ±5%; Rated Current: 115mA; DC Resistance: 6.3Ω; RoHS: Yes; ComponentLink1Description: Datasheet; ComponentLink1URL: https://wmsc.lcsc.com/wmsc/upload/file/pdf/v2/lcsc/2304140030_TDK-NLV25T-270J-PF_C250161.pdf; ComponentLink2Description: JLCPCB Part URL; ComponentLink2URL: https://jlcpcb.com/partdetail/C250161; ComponentLink3Description: LCSC Part URL; ComponentLink3URL: https://lcsc.com/product-detail/Inductors-SMD_TDK-TDK-NLV25T-270J-PF_C250161.html
footprint IND-1008 (1008 (2520M) Inductor)
pins: 1, 2

## NLV25T-330J-EF
designator L?  Inductance: 33uH
Inductor, 33uH, ±5%, 7.1Ω, 110mA, SMD 1008; Manufacturer: TDK; Manufacturer Part Number: NLV25T-330J-EF; Self-Resonant Frequency: 20MHz; Q Factor: 25@2.52MHz; Package Size: 1008; JLCPCB Basic Part: No; JLCPCB Part Number: C295130; Supplier 1: LCSC; Category: Inductors; Supplier Part Number 1: C295130; Tolerance: ±5%; Rated Current: 110mA; DC Resistance: 7.1Ω; RoHS: Yes; ComponentLink1Description: Datasheet; ComponentLink1URL: https://wmsc.lcsc.com/wmsc/upload/file/pdf/v2/lcsc/2304140030_TDK-NLV25T-330J-EF_C295130.pdf; ComponentLink2Description: JLCPCB Part URL; ComponentLink2URL: https://jlcpcb.com/partdetail/C295130; ComponentLink3Description: LCSC Part URL; ComponentLink3URL: https://lcsc.com/product-detail/Inductors-SMD_TDK-TDK-NLV25T-330J-EF_C295130.html
footprint IND-1008 (1008 (2520M) Inductor)
pins: 1, 2

## NLV25T-330J-PF
designator L?  Inductance: 33uH
Inductor, 33uH, ±5%, 7.1Ω, 110mA, SMD 1008; Manufacturer: TDK; Manufacturer Part Number: NLV25T-330J-PF; Self-Resonant Frequency: 20MHz; Q Factor: 25@2.52MHz; Package Size: 1008; JLCPCB Basic Part: No; JLCPCB Part Number: C136257; Supplier 1: LCSC; Category: Inductors; Supplier Part Number 1: C136257; Tolerance: ±5%; Rated Current: 110mA; DC Resistance: 7.1Ω; RoHS: Yes; ComponentLink1Description: Datasheet; ComponentLink1URL: https://wmsc.lcsc.com/wmsc/upload/file/pdf/v2/lcsc/2304140030_TDK-NLV25T-330J-PF_C136257.pdf; ComponentLink2Description: JLCPCB Part URL; ComponentLink2URL: https://jlcpcb.com/partdetail/C136257; ComponentLink3Description: LCSC Part URL; ComponentLink3URL: https://lcsc.com/product-detail/Inductors-SMD_TDK-TDK-NLV25T-330J-PF_C136257.html
footprint IND-1008 (1008 (2520M) Inductor)
pins: 1, 2

## NLV25T-390J-EF
designator L?  Inductance: 39uH
Inductor, 39uH, ±5%, 9.5Ω, 90mA, SMD 1008; Manufacturer: TDK; Manufacturer Part Number: NLV25T-390J-EF; Self-Resonant Frequency: 18MHz; Q Factor: 20@2.52MHz; Package Size: 1008; JLCPCB Basic Part: No; JLCPCB Part Number: C286746; Supplier 1: LCSC; Category: Inductors; Supplier Part Number 1: C286746; Tolerance: ±5%; Rated Current: 90mA; DC Resistance: 9.5Ω; RoHS: Yes; ComponentLink1Description: Datasheet; ComponentLink1URL: https://wmsc.lcsc.com/wmsc/upload/file/pdf/v2/lcsc/2304140030_TDK-NLV25T-390J-EF_C286746.pdf; ComponentLink2Description: JLCPCB Part URL; ComponentLink2URL: https://jlcpcb.com/partdetail/C286746; ComponentLink3Description: LCSC Part URL; ComponentLink3URL: https://lcsc.com/product-detail/Inductors-SMD_TDK-TDK-NLV25T-390J-EF_C286746.html
footprint IND-1008 (1008 (2520M) Inductor)
pins: 1, 2

## NLV25T-470J-EF
designator L?  Inductance: 47uH
Inductor, 47uH, ±5%, 11.1Ω, 80mA, SMD 1008; Manufacturer: TDK; Manufacturer Part Number: NLV25T-470J-EF; Self-Resonant Frequency: 17MHz; Q Factor: 20@2.52MHz; Package Size: 1008; JLCPCB Basic Part: No; JLCPCB Part Number: C286748; Supplier 1: LCSC; Category: Inductors; Supplier Part Number 1: C286748; Tolerance: ±5%; Rated Current: 80mA; DC Resistance: 11.1Ω; RoHS: Yes; ComponentLink1Description: Datasheet; ComponentLink1URL: https://wmsc.lcsc.com/wmsc/upload/file/pdf/v2/lcsc/2304140030_TDK-NLV25T-470J-EF_C286748.pdf; ComponentLink2Description: JLCPCB Part URL; ComponentLink2URL: https://jlcpcb.com/partdetail/C286748; ComponentLink3Description: LCSC Part URL; ComponentLink3URL: https://lcsc.com/product-detail/Inductors-SMD_TDK-TDK-NLV25T-470J-EF_C286748.html
footprint IND-1008 (1008 (2520M) Inductor)
pins: 1, 2